# Altium schematic symbol library BCX56.SchLib: 1 symbol
Pins are listed as number, name and electrical type; pins without a type are passive.

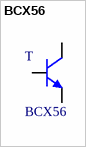
[diagram p0: symbol BCX56]

## BCX56
designator T  value BCX56  (hidden comment: *)
Manufacturer Code: BCX5616TA; Manufacturer: DIODES INC.; Voltage: 100V; Current: 1A; Farnell Code: 1471209; Unit Price: 0,46 €
footprint SOT89
pins: 1 B, 2 C, 3 E